# EAGLE library part 18V17 (library pajiao)
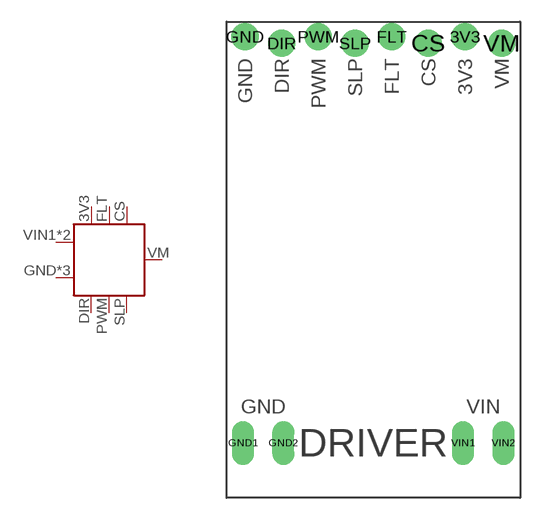
[diagram p0: symbol with the pads of 18V17; footprint 18V17]

Designator prefix -

## 18V17  [18V17]
3V3  3V3  out
CS  CS
DIR  DIR  in
FLT  FLT
GND  GND  pwr
GND1  GND  pwr
GND2  GND  pwr
PWM  PWM  in
SLP  SLP  in
VIN1  VIN  pwr
VIN2  VIN  pwr
VM  VM  pwr

## Footprint 18V17 (pad centres in mm)
drill 1.016 pad 1.88: 3V3 16.51,31.979; CS 13.97,31.521; DIR 3.81,31.521; FLT 11.43,31.979; GND 1.27,31.979; PWM 6.35,31.979; SLP 8.89,31.521; VM 19.05,31.521
drill 1.016 long: GND1 1.143,3.81; GND2 3.937,3.81; VIN1 16.383,3.81; VIN2 19.177,3.81